# EAGLE library part LTC2950ITS8-2#TRMPBF (library LTC2950ITS8-2#TRMPBF)
Linear Technology LTC2950ITS8-2#TRMPBF, Voltage Controller 1V max., 8-Pin TSOT-23 Source: Datasheet <http://uk.rs-online.com/web/p/products/8225976P>
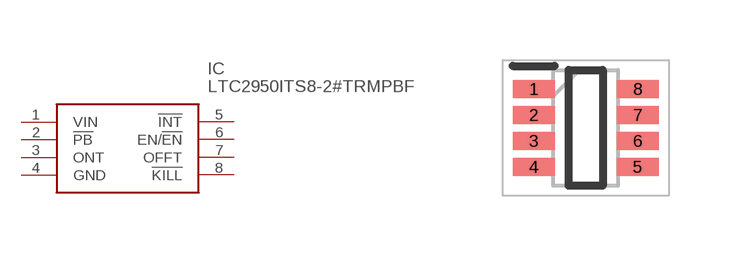
[diagram p0: symbol with the pads of SOT65P280X100-8N; footprint SOT65P280X100-8N]

Designator prefix IC

## LTC2950ITS8-2#TRMPBF (Description: Linear Technology LTC2950ITS8-2#TRMPBF, Voltage Controller 1V max., 8-Pin TSOT-23; Height: 1mm; Manufacturer_Name: Linear Technology; Manufacturer_Part_Number: LTC2950ITS8-2#TRMPBF; RS_Part_Number: 8225976P; RS_Price-Stock: http://uk.rs-online.com/web/p/products/8225976P)  [SOT65P280X100-8N]
1  VIN
2  !PB
3  ONT
4  GND
5  !INT
6  EN/!EN
7  OFFT
8  !KILL

## Footprint SOT65P280X100-8N (pad centres in mm)
8-Lead Plastic TSOT-23
smd 1.05 x 0.45: 1 -1.3,0.975; 2 -1.3,0.325; 3 -1.3,-0.325; 4 -1.3,-0.975; 5 1.3,-0.975; 6 1.3,-0.325; 7 1.3,0.325; 8 1.3,0.975